# EAGLE library part DF37NB-20DS-0.4/N97CAM (library GTA04b7)
N97 camera module (with DF37 connector)
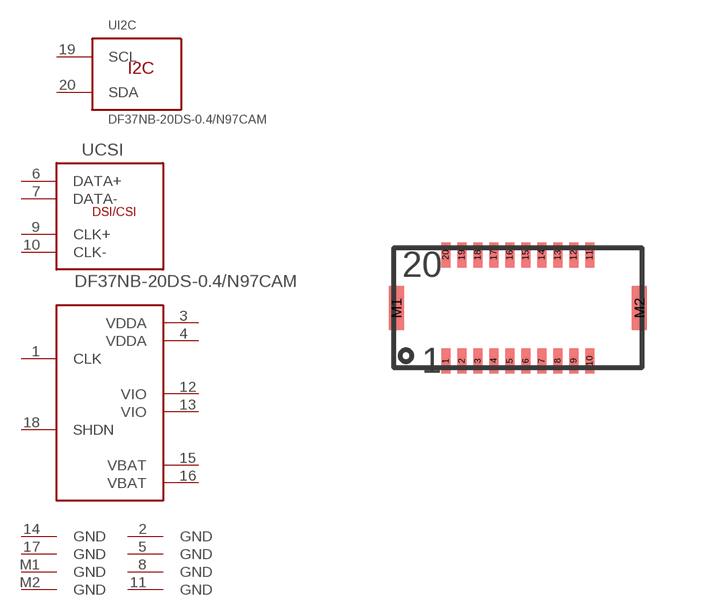
[diagram p13: symbol with the pads of DF37NB-20SD-0.4V; footprint DF37NB-20SD-0.4V]

Designator prefix -; gates CSI=IF-MIPI1 G$1=CAMERA-N97 GND1=GND-PIN GND2=GND-PIN GND3=GND-PIN GND4=GND-PIN GND5=GND-PIN GND6=GND-PIN I2C=IF-I2C M1=GND-PIN M2=GND-PIN

## DF37NB-20DS-0.4/N97CAM  [DF37NB-20SD-0.4V]
1  G$1:CLK  in
2  GND1:GND  pwr
3  G$1:VDDA  pwr
4  G$1:VDDA  pwr
5  GND2:GND  pwr
6  CSI:DATA+  pas
7  CSI:DATA-  pas
8  GND3:GND  pwr
9  CSI:CLK+  pas
10  CSI:CLK-  pas
11  GND4:GND  pwr
12  G$1:VIO  pwr
13  G$1:VIO  pwr
14  GND5:GND  pwr
15  G$1:VBAT  pwr
16  G$1:VBAT  pwr
17  GND6:GND  pwr
18  G$1:SHDN  in
19  I2C:SCL
20  I2C:SDA
M1  M1:GND  pwr
M2  M2:GND  pwr

## Footprint DF37NB-20SD-0.4V (pad centres in mm)
Hirose 0.95 mm B2B socket with 2x10 pins
smd 0.23 x 0.63: 1 -1.8,-1.325; 2 -1.4,-1.325; 3 -1,-1.325; 4 -0.6,-1.325; 5 -0.2,-1.325; 6 0.2,-1.325; 7 0.6,-1.325; 8 1,-1.325; 9 1.4,-1.325; 10 1.8,-1.325; 11 1.8,1.325; 12 1.4,1.325; 13 1,1.325; 14 0.6,1.325; 15 0.2,1.325; 16 -0.2,1.325; 17 -0.6,1.325; 18 -1,1.325; 19 -1.4,1.325; 20 -1.8,1.325
smd 0.38 x 1.1: M1 -3.04,0; M2 3.04,0